# EAGLE library part OPENAG-V1-RJ45 (library rj45_with_di2c_buffer)
Amphenol FCI - 54602-908LF - CONN MOD JACK 8P8C R/A UNSHLD Description: Jack Modular Connector 8p8c (RJ45, Ethernet) 90� Angle (Right) Unshielded Cat3 Technical Specifications: Connector Type: Jack Number of Positions/Contacts: 8p8c (RJ45, Ethernet) Number of Ports: 1 Number of Rows: 1 Mounting Type: Through Hole Orientation: 90� Angle (Right) Termination: Solder Shielding: Unshielded Ratings: Cat3 Features: Board Lock LED Color: Does Not Contain LED Tab Direction: Down Contact Material: Copper Alloy Contact Finish: Gold Contact Finish Thickness: 15�in (0.38�m) Housing Material: Polyester, Glass Filled Operating Temperature: -40�C ~ 70�C Datasheet(s): 54601-x04(zzz)WPLF Drawing <http://cdn.amphenol-icc.com/media/wysiwyg/files/drawing/c-bmj-0102.pdf> Vendor(s): Digikey: 609-1046-ND <https://www.digikey.com/product-detail/en/amphenol-fci/54602-908LF/609-1046-ND/1001360>
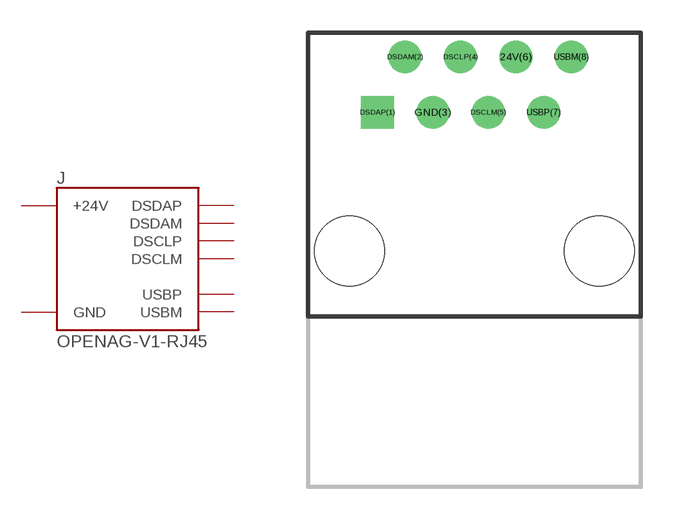
[diagram p1: symbol with the pads of OPENAG-V1-RJ45; footprint OPENAG-V1-RJ45]

Designator prefix J

## OPENAG-V1-RJ45PTH (POPULATE: YES; VALUE: 54602-908LF; VERIFIED: NO)  [OPENAG-V1-RJ45]
24V(6)  +24V
DSCLM(5)  DSCLM
DSCLP(4)  DSCLP
DSDAM(2)  DSDAM
DSDAP(1)  DSDAP
GND(3)  GND
USBM(8)  USBM
USBP(7)  USBP

## Footprint OPENAG-V1-RJ45 (pad centres in mm)
drill 1: 24V(6) 1.905,8.89; DSCLM(5) 0.635,6.35; DSCLP(4) -0.635,8.89; DSDAM(2) -3.175,8.89; GND(3) -1.905,6.35; USBM(8) 4.445,8.89; USBP(7) 3.175,6.35
drill 1 square: DSDAP(1) -4.445,6.35
hole 3.2 at -5.715,0
hole 3.2 at 5.715,0